# Altium footprint library akeys 5224-8P8C.PcbLib: 1 footprints
Each footprint in its own frame and in the unit in brackets; x right, y up, seen from the top. Pads: shape width x height; smd on the part's side, far side on the other; paste and mask are expansions set on the pad; w line width, h text height; cw(c..) or ccw(c..) is an arc to the next point about the centre after c.
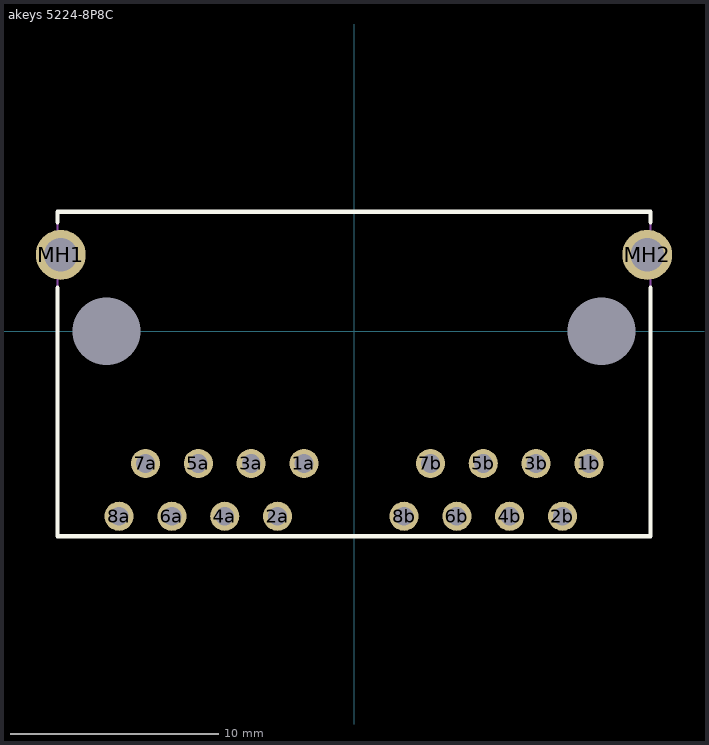
[diagram p0: the footprint, top view; thin cyan lines are the x and y axes]

## akeys 5224-8P8C [mm] "Hydrolib\Datasheet\akeys 5224-8P8C.png"
pads (20):
  round 1.4 hole 0.9: 1a(-2.405,-6.35) 1b(11.295,-6.35) 2a(-3.675,-8.89) 2b(10.025,-8.89) 3a(-4.945,-6.35) 3b(8.755,-6.35) 4a(-6.215,-8.89) 4b(7.485,-8.89) 5a(-7.485,-6.35) 5b(6.215,-6.35) 6a(-8.755,-8.89) 6b(4.945,-8.89) 7a(-10.025,-6.35) 7b(3.675,-6.35) 8a(-11.295,-8.89) 8b(2.405,-8.89)
  round 2.4 hole 1.6: MH1(-14.1,3.68) MH2(14.1,3.68)
  round 0 hole 3.25 unplated: MH3(11.9,0) MH4(-11.9,0)
Top Overlay:
  lines w0.2: -14.25,2.1 -14.25,-9.85 14.25,-9.85 14.25,2.1 ; -14.25,5.25 -14.25,5.75 14.25,5.75 14.25,5.25
Bottom Overlay:
  circle w0.2: c-1,-5.75 r0.1
  circle w0.2: c12.5,-5.75 r0.1
Mechanical 15:
  lines w0.1: -14.25,-9.85 -14.25,5.75 14.25,5.75 14.25,-9.85 -14.25,-9.85
3D body: height 16.5, standoff 0, extent -14.25,-9.85 14.25,5.75
3D body: height 3, standoff 0, extent -14.25,-9.85 14.25,5.75